# EAGLE library part 557562-1 (library matt con-amp)
AMP connector
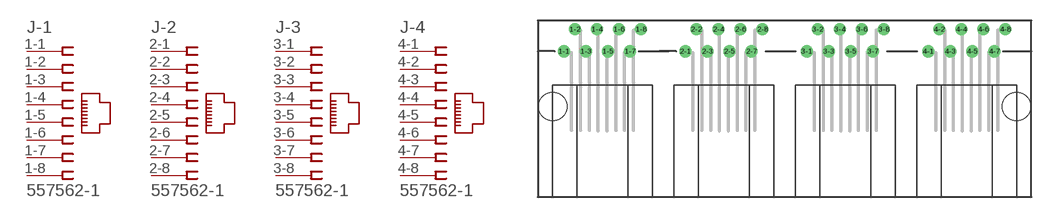
[diagram p61: symbol with the pads of 557562-1; footprint 557562-1]

Designator prefix J; gates -1=JACK8 -2=JACK8 -3=JACK8 -4=JACK8

## 557562-1  [557562-1]
1-1  -1:1  pas
1-2  -1:2  pas
1-3  -1:3  pas
1-4  -1:4  pas
1-5  -1:5  pas
1-6  -1:6  pas
1-7  -1:7  pas
1-8  -1:8  pas
2-1  -2:1  pas
2-2  -2:2  pas
2-3  -2:3  pas
2-4  -2:4  pas
2-5  -2:5  pas
2-6  -2:6  pas
2-7  -2:7  pas
2-8  -2:8  pas
3-1  -3:1  pas
3-2  -3:2  pas
3-3  -3:3  pas
3-4  -3:4  pas
3-5  -3:5  pas
3-6  -3:6  pas
3-7  -3:7  pas
3-8  -3:8  pas
4-1  -4:1  pas
4-2  -4:2  pas
4-3  -4:3  pas
4-4  -4:4  pas
4-5  -4:5  pas
4-6  -4:6  pas
4-7  -4:7  pas
4-8  -4:8  pas

## Footprint 557562-1 (pad centres in mm)
Modular Jack
drill 0.889 round: 1-1 -25.4,6.35; 1-2 -24.13,8.89; 1-3 -22.86,6.35; 1-4 -21.59,8.89; 1-5 -20.32,6.35; 1-6 -19.05,8.89; 1-7 -17.78,6.35; 1-8 -16.51,8.89; 2-1 -11.43,6.35; 2-2 -10.16,8.89; 2-3 -8.89,6.35; 2-4 -7.62,8.89; 2-5 -6.35,6.35; 2-6 -5.08,8.89; 2-7 -3.81,6.35; 2-8 -2.54,8.89; 3-1 2.54,6.35; 3-2 3.81,8.89; 3-3 5.08,6.35; 3-4 6.35,8.89; 3-5 7.62,6.35; 3-6 8.89,8.89; 3-7 10.16,6.35; 3-8 11.43,8.89; 4-1 16.51,6.35; 4-2 17.78,8.89; 4-3 19.05,6.35; 4-4 20.32,8.89; 4-5 21.59,6.35; 4-6 22.86,8.89; 4-7 24.13,6.35; 4-8 25.4,8.89
hole 3.251 at -26.67,0
hole 3.251 at 26.67,0